# Altium schematic symbol library IDL.SchLib: 12 symbols
Pins are listed as number, name and electrical type; pins without a type are passive.

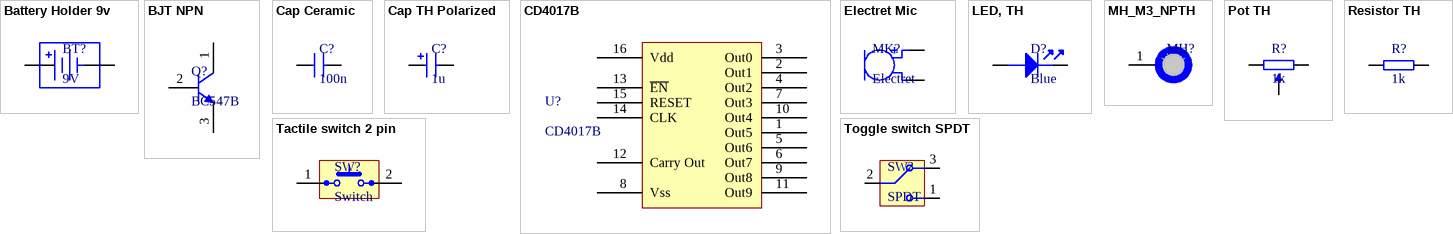
[diagram p0: symbols Battery Holder 9v to Toggle switch SPDT]

## Battery Holder 9v
designator BT?, comment 9V
Electrokit art nr: 41003388
footprint Battery_Holder_9V
pins: N NEG, P POS

## BJT NPN
designator Q?, comment BC547B
BJT NPN in CBE  configuration
footprint BC547_TO-92_BENT
pins: 1 C, 2 B, 3 E

## Cap Ceramic
designator C?, comment 100n
footprint C_CERAMIC_TH_P5.08mm
pins: 1, 2

## Cap TH Polarized
designator C?, comment 1u
D6.3mm H6mm P2.5mm
footprint C_Radial_D6.3mm_H6mm_P2.5mm
pins: 1, 2

## CD4017B
designator U?
Decade counter
footprint DIP16_W7.62mm_P2.54mm
pins: 1 Out5, 2 Out1, 3 Out0, 4 Out2, 5 Out6, 6 Out7, 7 Out3, 8 Vss, 9 Out8, 10 Out4, 11 Out9, 12 Carry Out, 13 ~{EN}, 14 CLK, 15 RESET, 16 Vdd

## Electret Mic
designator MK?, comment Electret
D9.7mm H6.7mm, Electrokit art nr: 40290007
footprint ElectretMic_9.7mm_6.7mm
pins: 1, 2

## LED, TH
designator D?, comment Blue
footprint LED_Radial_10mm
pins: 1 An, 2 Cat

## MH_M3_NPTH
designator MH?  (value not drawn)  (no BOM)
footprint MH_M3_NPTH
pins: 1

## Pot TH
designator R?, comment 1k
Trimpot TH 3386P
footprint Trimpot_TH_P5.08mm
pins: 1, 2, 3

## Resistor TH
designator R?, comment 1k
Axial P7.62mm
footprint R_Axial_7.62mm
pins: 1, 2

## Tactile switch 2 pin
designator SW?, comment Switch
2-pin tactile button switch
footprint SW_Tactile_2pin_P5.08mm
pins: 1, 2

## Toggle switch SPDT
designator SW?, comment SPDT
Toggle switch SPDT
footprint SW_SPDT_SMTS-102-A2
pins: 1, 2, 3